# Altium integrated library Analog Devices Data Converters Digital-to-Analog Converters.IntLib: 2231 symbols (part 70 of 181)
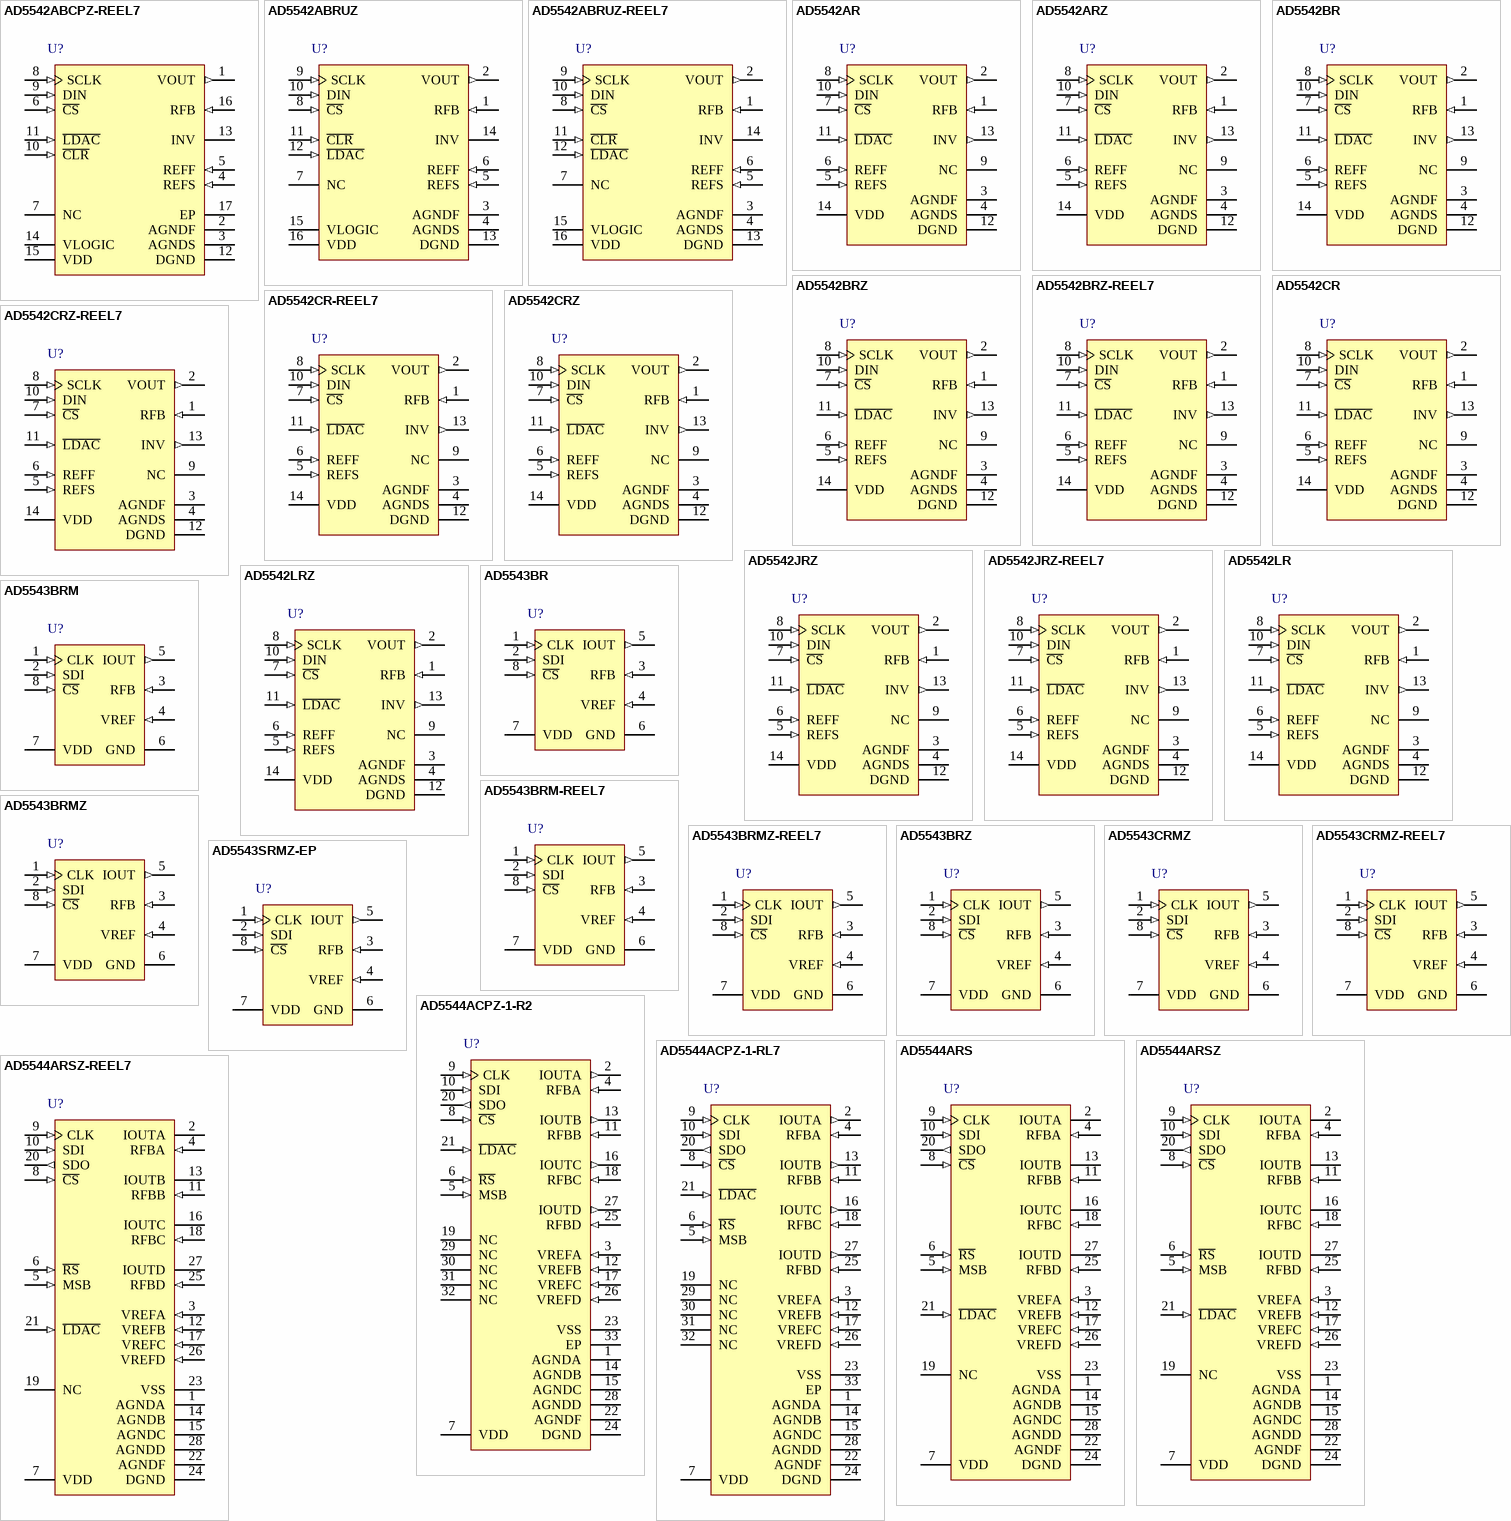
[diagram p183: symbols AD5542ABCPZ-REEL7 to AD5544ARSZ-REEL7]

## AD5542ABRUZ
designator U?
Single 16-Bit Digital-to-Analog Converter with Serial Interface, 2.7 to 5.5 V, -40 to +85 degC, RU-16, Pb-Free, Tube; Generic Part Number: AD5542A; Manufacturer: Analog Devices; PartNumber: AD5542ABRUZ; # DAC Outputs: 1; Max V+: 5.5V; Op Pwr Diss: 1.5mW; Resolution (Bits): 16; Settling Time: 1µs; Single Supply: Yes; DatasheetVersion: Rev.A; PackageVersion: Nov-2002; PackageReference: RU-16; PackageDescription: 16-Lead Thin Shrink Small Outline Package [TSSOP]; Supplier 1: Digi-Key; Supplier Part Number 1: AD5542ABRUZ-ND; Supplier 2: Mouser; Supplier Part Number 2: 584-AD5542ABRUZ; Packing: Tube; RoHS: Y; Mounting Technology: Surface Mount; Code_JEDEC: MO-153-AB; ComponentLink1Description: Manufacturer URL; ComponentLink1URL: http://www.analog.com/en/index.html; ComponentLink2Description: Datasheet; ComponentLink2URL: http://www.analog.com/static/imported-files/data_sheets/AD5512A_5542A.pdf; ComponentLink3Description: Package Specification; ComponentLink3URL: http://www.analog.com/static/imported-files/packages/36244347913743854010197452789RU16.pdf; ComponentLink4Description: Product URL; ComponentLink4URL: http://www.analog.com/en/digital-to-analog-converters/da-converters/ad5542a/products/product.html
footprint RU-16_N (TSOP, 16-Leads, Body 5x4.4mm, Pitch 0.65mm, IPC Medium Density)
footprint RU-16_L (TSOP, 16-Leads, Body 5x4.4mm, Pitch 0.65mm, IPC High Density)
footprint RU-16_M (TSOP, 16-Leads, Body 5x4.4mm, Pitch 0.65mm, IPC Low Density)
pins: 1 RFB (in) "Feedback Resistor Pin. In bipolar mode, connect this pin to the external op amp output.", 2 VOUT (out) "Analog Output Voltage from the DAC.", 3 AGNDF (power) "Ground Reference Point for Analog Circuitry (Force).", 4 AGNDS (power) "Ground Reference Point for Analog Circuitry (Sense).", 5 REFS (in) "Voltage Reference Input (Sense) for the DAC. Connect to an external 2.5 V reference. Reference can range from 2 V to VDD.", 6 REFF (in) "Voltage Reference Input (Force) for the DAC. Connect to an external 2.5 V reference. Reference can range from 2 V to VDD.", 7 NC "No Connect.", 8 ~{CS} (in) "Logic Input Signal. The chip select signal is used to frame the serial data input.", 9 SCLK (in) "Clock Input. Data is clocked into the input register on the rising edge of SCLK. Duty cycle must be between 40% and 60%.", 10 DIN (in) "Serial Data Input. This device accepts 16-bit words. Data is clocked into the input register on the rising edge of SCLK.", 11 ~{CLR} (in) "Asynchronous Clear Input. The C\L\R\ input is falling edge sensitive. When C\L\R\ is low, all L\D\A\C\ pulses are ignored. When C\L\R\ is activated, the DAC register is cleared to the model selectable midscale.", 12 ~{LDAC} (in) "L\D\A\C\ Input. When this input is taken low, the DAC register is simultaneously updated with the contents of the input register.", 13 DGND (power) "Digital Ground. Ground reference for digital circuitry.", 14 INV "Connection to the Internal Scaling Resistors of the DAC. Connect the INV pin to the external op amps inverting input in bipolar mode.", 15 VLOGIC (power) "Logic Power Supply.", 16 VDD (power) "Analog Supply Voltage, 5 V +/- 10%."

## AD5542ABRUZ-REEL7
designator U?
Single 16-Bit Digital-to-Analog Converter with Serial Interface, 2.7 to 5.5 V, -40 to +85 degC, RU-16, Pb-Free, Reel; Generic Part Number: AD5542A; Manufacturer: Analog Devices; PartNumber: AD5542ABRUZ-REEL7; # DAC Outputs: 1; Max V+: 5.5V; Op Pwr Diss: 1.5mW; Resolution (Bits): 16; Settling Time: 1µs; Single Supply: Yes; DatasheetVersion: Rev.A; PackageVersion: Nov-2002; PackageReference: RU-16; PackageDescription: 16-Lead Thin Shrink Small Outline Package [TSSOP]; Supplier 1: Digi-Key; Supplier Part Number 1: AD5542ABRUZ-REEL7-ND; Supplier 2: Mouser; Supplier Part Number 2: 584-AD5542ABRUZ-R7; Packing: Reel; RoHS: Y; Mounting Technology: Surface Mount; Code_JEDEC: MO-153-AB; ComponentLink1Description: Manufacturer URL; ComponentLink1URL: http://www.analog.com/en/index.html; ComponentLink2Description: Datasheet; ComponentLink2URL: http://www.analog.com/static/imported-files/data_sheets/AD5512A_5542A.pdf; ComponentLink3Description: Package Specification; ComponentLink3URL: http://www.analog.com/static/imported-files/packages/36244347913743854010197452789RU16.pdf; ComponentLink4Description: Product URL; ComponentLink4URL: http://www.analog.com/en/digital-to-analog-converters/da-converters/ad5542a/products/product.html
footprint RU-16_N (TSOP, 16-Leads, Body 5x4.4mm, Pitch 0.65mm, IPC Medium Density)
footprint RU-16_L (TSOP, 16-Leads, Body 5x4.4mm, Pitch 0.65mm, IPC High Density)
footprint RU-16_M (TSOP, 16-Leads, Body 5x4.4mm, Pitch 0.65mm, IPC Low Density)
pins: 1 RFB (in) "Feedback Resistor Pin. In bipolar mode, connect this pin to the external op amp output.", 2 VOUT (out) "Analog Output Voltage from the DAC.", 3 AGNDF (power) "Ground Reference Point for Analog Circuitry (Force).", 4 AGNDS (power) "Ground Reference Point for Analog Circuitry (Sense).", 5 REFS (in) "Voltage Reference Input (Sense) for the DAC. Connect to an external 2.5 V reference. Reference can range from 2 V to VDD.", 6 REFF (in) "Voltage Reference Input (Force) for the DAC. Connect to an external 2.5 V reference. Reference can range from 2 V to VDD.", 7 NC "No Connect.", 8 ~{CS} (in) "Logic Input Signal. The chip select signal is used to frame the serial data input.", 9 SCLK (in) "Clock Input. Data is clocked into the input register on the rising edge of SCLK. Duty cycle must be between 40% and 60%.", 10 DIN (in) "Serial Data Input. This device accepts 16-bit words. Data is clocked into the input register on the rising edge of SCLK.", 11 ~{CLR} (in) "Asynchronous Clear Input. The C\L\R\ input is falling edge sensitive. When C\L\R\ is low, all L\D\A\C\ pulses are ignored. When C\L\R\ is activated, the DAC register is cleared to the model selectable midscale.", 12 ~{LDAC} (in) "L\D\A\C\ Input. When this input is taken low, the DAC register is simultaneously updated with the contents of the input register.", 13 DGND (power) "Digital Ground. Ground reference for digital circuitry.", 14 INV "Connection to the Internal Scaling Resistors of the DAC. Connect the INV pin to the external op amps inverting input in bipolar mode.", 15 VLOGIC (power) "Logic Power Supply.", 16 VDD (power) "Analog Supply Voltage, 5 V +/- 10%."

## AD5542AR
designator U?
Single 16-Bit Digital-to-Analog Converter with Serial Interface, 2.7 to 5.5 V, -40 to +85 degC, R-14, Tube; Generic Part Number: AD5542; Manufacturer: Analog Devices; PartNumber: AD5542AR; # DAC Outputs: 1; Max V+: 5.5V; Op Pwr Diss: 6.05mW; Resolution (Bits): 16; Settling Time: 1µs; Single Supply: Yes; DatasheetVersion: Rev.F; PackageVersion: 060606-A; PackageReference: R-14; PackageDescription: 14-Lead Standard Small Outline Package [SOIC_N]; Supplier 1: Digi-Key; Supplier Part Number 1: AD5542AR-ND; Supplier 2: Mouser; Supplier Part Number 2: 584-AD5542AR; Packing: Tube; RoHS: N; Mounting Technology: Surface Mount; Code_JEDEC: MS-012-AB; Code_IPC: SOIC127P600-14; ComponentLink1Description: Manufacturer URL; ComponentLink1URL: http://www.analog.com/en/index.html; ComponentLink2Description: Datasheet; ComponentLink2URL: http://www.analog.com/static/imported-files/data_sheets/AD5541_5542.pdf; ComponentLink3Description: Package Specification; ComponentLink3URL: http://www.analog.com/static/imported-files/packages/PKG_PDF/SOIC_Narrow%20(R)/R_14.pdf; ComponentLink4Description: Product URL; ComponentLink4URL: http://www.analog.com/en/digital-to-analog-converters/da-converters/ad5542/products/product.html; ComponentLink5Description: Reference Design URL; ComponentLink5URL: http://www.analog.com/en/digital-to-analog-converters/da-converters/ad5542/products/product.html#prod_cross_sell
footprint R-14_N (SOIC, 14-Leads, Body 8.7x3.9mm, Pitch 1.27mm, IPC Medium Density)
footprint R-14_L (SOIC, 14-Leads, Body 8.7x3.9mm, Pitch 1.27mm, IPC High Density)
footprint R-14_M (SOIC, 14-Leads, Body 8.7x3.9mm, Pitch 1.27mm, IPC Low Density)
pins: 1 RFB (in) "Feedback Resistor Pin. In bipolar mode, connect this pin to the external op amp output.", 2 VOUT (out) "Analog Output Voltage from the DAC.", 3 AGNDF (power) "Ground Reference Point for Analog Circuitry (Force).", 4 AGNDS (power) "Ground Reference Point for Analog Circuitry (Sense).", 5 REFS (in) "Voltage Reference Input (Sense) for the DAC. Connect to an external 2.5 V reference. Reference can range from 2 V to VDD.", 6 REFF (in) "Voltage Reference Input (Force) for the DAC. Connect to an external 2.5 V reference. Reference can range from 2 V to VDD.", 7 ~{CS} (in) "Logic Input Signal. The chip select signal is used to frame the serial data input.", 8 SCLK (in) "Clock Input. Data is clocked into the input register on the rising edge of SCLK. Duty cycle must be between 40% and 60%.", 9 NC "No Connect.", 10 DIN (in) "Serial Data Input. This device accepts 16-bit words. Data is clocked into the input register on the rising edge of SCLK.", 11 ~{LDAC} (in) "L\D\A\C\ Input. When this input is taken low, the DAC register is simultaneously updated with the contents of the input register.", 12 DGND (power) "Digital Ground. Ground reference for digital circuitry.", 13 INV (out) "Connected to the Internal Scaling Resistors of the DAC. Connect the INV pin to external op amps inverting input in bipolar mode", 14 VDD (power) "Analog Supply Voltage, 5 V +/- 10%."

## AD5542ARZ
designator U?
Single 16-Bit Digital-to-Analog Converter with Serial Interface, 2.7 to 5.5 V, -40 to +85 degC, R-14, Pb-Free, Tube; Generic Part Number: AD5542; Manufacturer: Analog Devices; PartNumber: AD5542ARZ; # DAC Outputs: 1; Max V+: 5.5V; Op Pwr Diss: 6.05mW; Resolution (Bits): 16; Settling Time: 1µs; Single Supply: Yes; DatasheetVersion: Rev.F; PackageVersion: 060606-A; PackageReference: R-14; PackageDescription: 14-Lead Standard Small Outline Package [SOIC_N]; Supplier 1: Digi-Key; Supplier Part Number 1: AD5542ARZ-ND; Supplier 2: Newark; Supplier Part Number 2: 59K4213; Supplier 3: Mouser; Supplier Part Number 3: 584-AD5542ARZ; Packing: Tube; RoHS: Y; Mounting Technology: Surface Mount; Code_JEDEC: MS-012-AB; Code_IPC: SOIC127P600-14; ComponentLink1Description: Manufacturer URL; ComponentLink1URL: http://www.analog.com/en/index.html; ComponentLink2Description: Datasheet; ComponentLink2URL: http://www.analog.com/static/imported-files/data_sheets/AD5541_5542.pdf; ComponentLink3Description: Package Specification; ComponentLink3URL: http://www.analog.com/static/imported-files/packages/PKG_PDF/SOIC_Narrow%20(R)/R_14.pdf; ComponentLink4Description: Product URL; ComponentLink4URL: http://www.analog.com/en/digital-to-analog-converters/da-converters/ad5542/products/product.html; ComponentLink5Description: Reference Design URL; ComponentLink5URL: http://www.analog.com/en/digital-to-analog-converters/da-converters/ad5542/products/product.html#prod_cross_sell
footprint R-14_N (SOIC, 14-Leads, Body 8.7x3.9mm, Pitch 1.27mm, IPC Medium Density)
footprint R-14_L (SOIC, 14-Leads, Body 8.7x3.9mm, Pitch 1.27mm, IPC High Density)
footprint R-14_M (SOIC, 14-Leads, Body 8.7x3.9mm, Pitch 1.27mm, IPC Low Density)
pins: 1 RFB (in) "Feedback Resistor Pin. In bipolar mode, connect this pin to the external op amp output.", 2 VOUT (out) "Analog Output Voltage from the DAC.", 3 AGNDF (power) "Ground Reference Point for Analog Circuitry (Force).", 4 AGNDS (power) "Ground Reference Point for Analog Circuitry (Sense).", 5 REFS (in) "Voltage Reference Input (Sense) for the DAC. Connect to an external 2.5 V reference. Reference can range from 2 V to VDD.", 6 REFF (in) "Voltage Reference Input (Force) for the DAC. Connect to an external 2.5 V reference. Reference can range from 2 V to VDD.", 7 ~{CS} (in) "Logic Input Signal. The chip select signal is used to frame the serial data input.", 8 SCLK (in) "Clock Input. Data is clocked into the input register on the rising edge of SCLK. Duty cycle must be between 40% and 60%.", 9 NC "No Connect.", 10 DIN (in) "Serial Data Input. This device accepts 16-bit words. Data is clocked into the input register on the rising edge of SCLK.", 11 ~{LDAC} (in) "L\D\A\C\ Input. When this input is taken low, the DAC register is simultaneously updated with the contents of the input register.", 12 DGND (power) "Digital Ground. Ground reference for digital circuitry.", 13 INV (out) "Connected to the Internal Scaling Resistors of the DAC. Connect the INV pin to external op amps inverting input in bipolar mode", 14 VDD (power) "Analog Supply Voltage, 5 V +/- 10%."

## AD5542BR
designator U?
Single 16-Bit Digital-to-Analog Converter with Serial Interface, 2.7 to 5.5 V, -40 to +85 degC, R-14, Tube; Generic Part Number: AD5542; Manufacturer: Analog Devices; PartNumber: AD5542BR; # DAC Outputs: 1; Max V+: 5.5V; Op Pwr Diss: 6.05mW; Resolution (Bits): 16; Settling Time: 1µs; Single Supply: Yes; DatasheetVersion: Rev.F; PackageVersion: 060606-A; PackageReference: R-14; PackageDescription: 14-Lead Standard Small Outline Package [SOIC_N]; Supplier 1: Digi-Key; Supplier Part Number 1: AD5542BR-ND; Supplier 2: Mouser; Supplier Part Number 2: 584-AD5542BR; Packing: Tube; RoHS: N; Mounting Technology: Surface Mount; Code_JEDEC: MS-012-AB; Code_IPC: SOIC127P600-14; ComponentLink1Description: Manufacturer URL; ComponentLink1URL: http://www.analog.com/en/index.html; ComponentLink2Description: Datasheet; ComponentLink2URL: http://www.analog.com/static/imported-files/data_sheets/AD5541_5542.pdf; ComponentLink3Description: Package Specification; ComponentLink3URL: http://www.analog.com/static/imported-files/packages/PKG_PDF/SOIC_Narrow%20(R)/R_14.pdf; ComponentLink4Description: Product URL; ComponentLink4URL: http://www.analog.com/en/digital-to-analog-converters/da-converters/ad5542/products/product.html; ComponentLink5Description: Reference Design URL; ComponentLink5URL: http://www.analog.com/en/digital-to-analog-converters/da-converters/ad5542/products/product.html#prod_cross_sell
footprint R-14_N (SOIC, 14-Leads, Body 8.7x3.9mm, Pitch 1.27mm, IPC Medium Density)
footprint R-14_L (SOIC, 14-Leads, Body 8.7x3.9mm, Pitch 1.27mm, IPC High Density)
footprint R-14_M (SOIC, 14-Leads, Body 8.7x3.9mm, Pitch 1.27mm, IPC Low Density)
pins: 1 RFB (in) "Feedback Resistor Pin. In bipolar mode, connect this pin to the external op amp output.", 2 VOUT (out) "Analog Output Voltage from the DAC.", 3 AGNDF (power) "Ground Reference Point for Analog Circuitry (Force).", 4 AGNDS (power) "Ground Reference Point for Analog Circuitry (Sense).", 5 REFS (in) "Voltage Reference Input (Sense) for the DAC. Connect to an external 2.5 V reference. Reference can range from 2 V to VDD.", 6 REFF (in) "Voltage Reference Input (Force) for the DAC. Connect to an external 2.5 V reference. Reference can range from 2 V to VDD.", 7 ~{CS} (in) "Logic Input Signal. The chip select signal is used to frame the serial data input.", 8 SCLK (in) "Clock Input. Data is clocked into the input register on the rising edge of SCLK. Duty cycle must be between 40% and 60%.", 9 NC "No Connect.", 10 DIN (in) "Serial Data Input. This device accepts 16-bit words. Data is clocked into the input register on the rising edge of SCLK.", 11 ~{LDAC} (in) "L\D\A\C\ Input. When this input is taken low, the DAC register is simultaneously updated with the contents of the input register.", 12 DGND (power) "Digital Ground. Ground reference for digital circuitry.", 13 INV (out) "Connected to the Internal Scaling Resistors of the DAC. Connect the INV pin to external op amps inverting input in bipolar mode", 14 VDD (power) "Analog Supply Voltage, 5 V +/- 10%."

## AD5542BRZ
designator U?
Single 16-Bit Digital-to-Analog Converter with Serial Interface, 2.7 to 5.5 V, -40 to +85 degC, R-14, Pb-Free, Tube; Generic Part Number: AD5542; Manufacturer: Analog Devices; PartNumber: AD5542BRZ; # DAC Outputs: 1; Max V+: 5.5V; Op Pwr Diss: 6.05mW; Resolution (Bits): 16; Settling Time: 1µs; Single Supply: Yes; DatasheetVersion: Rev.F; PackageVersion: 060606-A; PackageReference: R-14; PackageDescription: 14-Lead Standard Small Outline Package [SOIC_N]; Supplier 1: Digi-Key; Supplier Part Number 1: AD5542BRZ-ND; Supplier 2: Farnell; Supplier Part Number 2: 2305673; Supplier 3: Newark; Supplier Part Number 3: 84W7400; Supplier 4: Mouser; Supplier Part Number 4: 584-AD5542BRZ; Packing: Tube; RoHS: Y; Mounting Technology: Surface Mount; Code_JEDEC: MS-012-AB; Code_IPC: SOIC127P600-14; ComponentLink1Description: Manufacturer URL; ComponentLink1URL: http://www.analog.com/en/index.html; ComponentLink2Description: Datasheet; ComponentLink2URL: http://www.analog.com/static/imported-files/data_sheets/AD5541_5542.pdf; ComponentLink3Description: Package Specification; ComponentLink3URL: http://www.analog.com/static/imported-files/packages/PKG_PDF/SOIC_Narrow%20(R)/R_14.pdf; ComponentLink4Description: Product URL; ComponentLink4URL: http://www.analog.com/en/digital-to-analog-converters/da-converters/ad5542/products/product.html; ComponentLink5Description: Reference Design URL; ComponentLink5URL: http://www.analog.com/en/digital-to-analog-converters/da-converters/ad5542/products/product.html#prod_cross_sell
footprint R-14_N (SOIC, 14-Leads, Body 8.7x3.9mm, Pitch 1.27mm, IPC Medium Density)
footprint R-14_L (SOIC, 14-Leads, Body 8.7x3.9mm, Pitch 1.27mm, IPC High Density)
footprint R-14_M (SOIC, 14-Leads, Body 8.7x3.9mm, Pitch 1.27mm, IPC Low Density)
pins: 1 RFB (in) "Feedback Resistor Pin. In bipolar mode, connect this pin to the external op amp output.", 2 VOUT (out) "Analog Output Voltage from the DAC.", 3 AGNDF (power) "Ground Reference Point for Analog Circuitry (Force).", 4 AGNDS (power) "Ground Reference Point for Analog Circuitry (Sense).", 5 REFS (in) "Voltage Reference Input (Sense) for the DAC. Connect to an external 2.5 V reference. Reference can range from 2 V to VDD.", 6 REFF (in) "Voltage Reference Input (Force) for the DAC. Connect to an external 2.5 V reference. Reference can range from 2 V to VDD.", 7 ~{CS} (in) "Logic Input Signal. The chip select signal is used to frame the serial data input.", 8 SCLK (in) "Clock Input. Data is clocked into the input register on the rising edge of SCLK. Duty cycle must be between 40% and 60%.", 9 NC "No Connect.", 10 DIN (in) "Serial Data Input. This device accepts 16-bit words. Data is clocked into the input register on the rising edge of SCLK.", 11 ~{LDAC} (in) "L\D\A\C\ Input. When this input is taken low, the DAC register is simultaneously updated with the contents of the input register.", 12 DGND (power) "Digital Ground. Ground reference for digital circuitry.", 13 INV (out) "Connected to the Internal Scaling Resistors of the DAC. Connect the INV pin to external op amps inverting input in bipolar mode", 14 VDD (power) "Analog Supply Voltage, 5 V +/- 10%."

## AD5542BRZ-REEL7
designator U?
Single 16-Bit Digital-to-Analog Converter with Serial Interface, 2.7 to 5.5 V, -40 to +85 degC, R-14, Pb-Free, Reel; Generic Part Number: AD5542; Manufacturer: Analog Devices; PartNumber: AD5542BRZ-REEL7; # DAC Outputs: 1; Max V+: 5.5V; Op Pwr Diss: 6.05mW; Resolution (Bits): 16; Settling Time: 1µs; Single Supply: Yes; DatasheetVersion: Rev.F; PackageVersion: 060606-A; PackageReference: R-14; PackageDescription: 14-Lead Standard Small Outline Package [SOIC_N]; Supplier 1: Digi-Key; Supplier Part Number 1: AD5542BRZ-REEL7-ND; Supplier 2: Mouser; Supplier Part Number 2: 584-AD5542BRZ-R7; Packing: Reel; RoHS: Y; Mounting Technology: Surface Mount; Code_JEDEC: MS-012-AB; Code_IPC: SOIC127P600-14; ComponentLink1Description: Manufacturer URL; ComponentLink1URL: http://www.analog.com/en/index.html; ComponentLink2Description: Datasheet; ComponentLink2URL: http://www.analog.com/static/imported-files/data_sheets/AD5541_5542.pdf; ComponentLink3Description: Package Specification; ComponentLink3URL: http://www.analog.com/static/imported-files/packages/PKG_PDF/SOIC_Narrow%20(R)/R_14.pdf; ComponentLink4Description: Product URL; ComponentLink4URL: http://www.analog.com/en/digital-to-analog-converters/da-converters/ad5542/products/product.html; ComponentLink5Description: Reference Design URL; ComponentLink5URL: http://www.analog.com/en/digital-to-analog-converters/da-converters/ad5542/products/product.html#prod_cross_sell
footprint R-14_N (SOIC, 14-Leads, Body 8.7x3.9mm, Pitch 1.27mm, IPC Medium Density)
footprint R-14_L (SOIC, 14-Leads, Body 8.7x3.9mm, Pitch 1.27mm, IPC High Density)
footprint R-14_M (SOIC, 14-Leads, Body 8.7x3.9mm, Pitch 1.27mm, IPC Low Density)
pins: 1 RFB (in) "Feedback Resistor Pin. In bipolar mode, connect this pin to the external op amp output.", 2 VOUT (out) "Analog Output Voltage from the DAC.", 3 AGNDF (power) "Ground Reference Point for Analog Circuitry (Force).", 4 AGNDS (power) "Ground Reference Point for Analog Circuitry (Sense).", 5 REFS (in) "Voltage Reference Input (Sense) for the DAC. Connect to an external 2.5 V reference. Reference can range from 2 V to VDD.", 6 REFF (in) "Voltage Reference Input (Force) for the DAC. Connect to an external 2.5 V reference. Reference can range from 2 V to VDD.", 7 ~{CS} (in) "Logic Input Signal. The chip select signal is used to frame the serial data input.", 8 SCLK (in) "Clock Input. Data is clocked into the input register on the rising edge of SCLK. Duty cycle must be between 40% and 60%.", 9 NC "No Connect.", 10 DIN (in) "Serial Data Input. This device accepts 16-bit words. Data is clocked into the input register on the rising edge of SCLK.", 11 ~{LDAC} (in) "L\D\A\C\ Input. When this input is taken low, the DAC register is simultaneously updated with the contents of the input register.", 12 DGND (power) "Digital Ground. Ground reference for digital circuitry.", 13 INV (out) "Connected to the Internal Scaling Resistors of the DAC. Connect the INV pin to external op amps inverting input in bipolar mode", 14 VDD (power) "Analog Supply Voltage, 5 V +/- 10%."

## AD5542CR
designator U?
Single 16-Bit Digital-to-Analog Converter with Serial Interface, 2.7 to 5.5 V, -40 to +85 degC, R-14, Tube; Generic Part Number: AD5542; Manufacturer: Analog Devices; PartNumber: AD5542CR; # DAC Outputs: 1; Max V+: 5.5V; Op Pwr Diss: 6.05mW; Resolution (Bits): 16; Settling Time: 1µs; Single Supply: Yes; DatasheetVersion: Rev.F; PackageVersion: 060606-A; PackageReference: R-14; PackageDescription: 14-Lead Standard Small Outline Package [SOIC_N]; Supplier 1: Digi-Key; Supplier Part Number 1: AD5542CR-ND; Supplier 2: Newark; Supplier Part Number 2: 19C6866; Supplier 3: Mouser; Supplier Part Number 3: 584-AD5542CR; Packing: Tube; RoHS: N; Mounting Technology: Surface Mount; Code_JEDEC: MS-012-AB; Code_IPC: SOIC127P600-14; ComponentLink1Description: Manufacturer URL; ComponentLink1URL: http://www.analog.com/en/index.html; ComponentLink2Description: Datasheet; ComponentLink2URL: http://www.analog.com/static/imported-files/data_sheets/AD5541_5542.pdf; ComponentLink3Description: Package Specification; ComponentLink3URL: http://www.analog.com/static/imported-files/packages/PKG_PDF/SOIC_Narrow%20(R)/R_14.pdf; ComponentLink4Description: Product URL; ComponentLink4URL: http://www.analog.com/en/digital-to-analog-converters/da-converters/ad5542/products/product.html; ComponentLink5Description: Reference Design URL; ComponentLink5URL: http://www.analog.com/en/digital-to-analog-converters/da-converters/ad5542/products/product.html#prod_cross_sell
footprint R-14_N (SOIC, 14-Leads, Body 8.7x3.9mm, Pitch 1.27mm, IPC Medium Density)
footprint R-14_L (SOIC, 14-Leads, Body 8.7x3.9mm, Pitch 1.27mm, IPC High Density)
footprint R-14_M (SOIC, 14-Leads, Body 8.7x3.9mm, Pitch 1.27mm, IPC Low Density)
pins: 1 RFB (in) "Feedback Resistor Pin. In bipolar mode, connect this pin to the external op amp output.", 2 VOUT (out) "Analog Output Voltage from the DAC.", 3 AGNDF (power) "Ground Reference Point for Analog Circuitry (Force).", 4 AGNDS (power) "Ground Reference Point for Analog Circuitry (Sense).", 5 REFS (in) "Voltage Reference Input (Sense) for the DAC. Connect to an external 2.5 V reference. Reference can range from 2 V to VDD.", 6 REFF (in) "Voltage Reference Input (Force) for the DAC. Connect to an external 2.5 V reference. Reference can range from 2 V to VDD.", 7 ~{CS} (in) "Logic Input Signal. The chip select signal is used to frame the serial data input.", 8 SCLK (in) "Clock Input. Data is clocked into the input register on the rising edge of SCLK. Duty cycle must be between 40% and 60%.", 9 NC "No Connect.", 10 DIN (in) "Serial Data Input. This device accepts 16-bit words. Data is clocked into the input register on the rising edge of SCLK.", 11 ~{LDAC} (in) "L\D\A\C\ Input. When this input is taken low, the DAC register is simultaneously updated with the contents of the input register.", 12 DGND (power) "Digital Ground. Ground reference for digital circuitry.", 13 INV (out) "Connected to the Internal Scaling Resistors of the DAC. Connect the INV pin to external op amps inverting input in bipolar mode", 14 VDD (power) "Analog Supply Voltage, 5 V +/- 10%."

## AD5542CR-REEL7
designator U?
Single 16-Bit Digital-to-Analog Converter with Serial Interface, 2.7 to 5.5 V, -40 to +85 degC, R-14, Reel; Generic Part Number: AD5542; Manufacturer: Analog Devices; PartNumber: AD5542CR-REEL7; # DAC Outputs: 1; Max V+: 5.5V; Op Pwr Diss: 6.05mW; Resolution (Bits): 16; Settling Time: 1µs; Single Supply: Yes; DatasheetVersion: Rev.F; PackageVersion: 060606-A; PackageReference: R-14; PackageDescription: 14-Lead Standard Small Outline Package [SOIC_N]; Supplier 1: Mouser; Supplier Part Number 1: N/A; Packing: Reel; RoHS: N; Mounting Technology: Surface Mount; Code_JEDEC: MS-012-AB; Code_IPC: SOIC127P600-14; ComponentLink1Description: Manufacturer URL; ComponentLink1URL: http://www.analog.com/en/index.html; ComponentLink2Description: Datasheet; ComponentLink2URL: http://www.analog.com/static/imported-files/data_sheets/AD5541_5542.pdf; ComponentLink3Description: Package Specification; ComponentLink3URL: http://www.analog.com/static/imported-files/packages/PKG_PDF/SOIC_Narrow%20(R)/R_14.pdf; ComponentLink4Description: Product URL; ComponentLink4URL: http://www.analog.com/en/digital-to-analog-converters/da-converters/ad5542/products/product.html; ComponentLink5Description: Reference Design URL; ComponentLink5URL: http://www.analog.com/en/digital-to-analog-converters/da-converters/ad5542/products/product.html#prod_cross_sell
footprint R-14_N (SOIC, 14-Leads, Body 8.7x3.9mm, Pitch 1.27mm, IPC Medium Density)
footprint R-14_L (SOIC, 14-Leads, Body 8.7x3.9mm, Pitch 1.27mm, IPC High Density)
footprint R-14_M (SOIC, 14-Leads, Body 8.7x3.9mm, Pitch 1.27mm, IPC Low Density)
pins: 1 RFB (in) "Feedback Resistor Pin. In bipolar mode, connect this pin to the external op amp output.", 2 VOUT (out) "Analog Output Voltage from the DAC.", 3 AGNDF (power) "Ground Reference Point for Analog Circuitry (Force).", 4 AGNDS (power) "Ground Reference Point for Analog Circuitry (Sense).", 5 REFS (in) "Voltage Reference Input (Sense) for the DAC. Connect to an external 2.5 V reference. Reference can range from 2 V to VDD.", 6 REFF (in) "Voltage Reference Input (Force) for the DAC. Connect to an external 2.5 V reference. Reference can range from 2 V to VDD.", 7 ~{CS} (in) "Logic Input Signal. The chip select signal is used to frame the serial data input.", 8 SCLK (in) "Clock Input. Data is clocked into the input register on the rising edge of SCLK. Duty cycle must be between 40% and 60%.", 9 NC "No Connect.", 10 DIN (in) "Serial Data Input. This device accepts 16-bit words. Data is clocked into the input register on the rising edge of SCLK.", 11 ~{LDAC} (in) "L\D\A\C\ Input. When this input is taken low, the DAC register is simultaneously updated with the contents of the input register.", 12 DGND (power) "Digital Ground. Ground reference for digital circuitry.", 13 INV (out) "Connected to the Internal Scaling Resistors of the DAC. Connect the INV pin to external op amps inverting input in bipolar mode", 14 VDD (power) "Analog Supply Voltage, 5 V +/- 10%."

## AD5542CRZ
designator U?
Single 16-Bit Digital-to-Analog Converter with Serial Interface, 2.7 to 5.5 V, -40 to +85 degC, R-14, Pb-Free, Tube; Generic Part Number: AD5542; Manufacturer: Analog Devices; PartNumber: AD5542CRZ; # DAC Outputs: 1; Max V+: 5.5V; Op Pwr Diss: 6.05mW; Resolution (Bits): 16; Settling Time: 1µs; Single Supply: Yes; DatasheetVersion: Rev.F; PackageVersion: 060606-A; PackageReference: R-14; PackageDescription: 14-Lead Standard Small Outline Package [SOIC_N]; Supplier 1: Digi-Key; Supplier Part Number 1: AD5542CRZ-ND; Supplier 2: Farnell; Supplier Part Number 2: 1438374; Supplier 3: Newark; Supplier Part Number 3: 15P0691; Supplier 4: Newark; Supplier Part Number 4: 12M8556; Supplier 5: Mouser; Supplier Part Number 5: 584-AD5542CRZ; Packing: Tube; RoHS: Y; Mounting Technology: Surface Mount; Code_JEDEC: MS-012-AB; Code_IPC: SOIC127P600-14; ComponentLink1Description: Manufacturer URL; ComponentLink1URL: http://www.analog.com/en/index.html; ComponentLink2Description: Datasheet; ComponentLink2URL: http://www.analog.com/static/imported-files/data_sheets/AD5541_5542.pdf; ComponentLink3Description: Package Specification; ComponentLink3URL: http://www.analog.com/static/imported-files/packages/PKG_PDF/SOIC_Narrow%20(R)/R_14.pdf; ComponentLink4Description: Product URL; ComponentLink4URL: http://www.analog.com/en/digital-to-analog-converters/da-converters/ad5542/products/product.html; ComponentLink5Description: Reference Design URL; ComponentLink5URL: http://www.analog.com/en/digital-to-analog-converters/da-converters/ad5542/products/product.html#prod_cross_sell
footprint R-14_N (SOIC, 14-Leads, Body 8.7x3.9mm, Pitch 1.27mm, IPC Medium Density)
footprint R-14_L (SOIC, 14-Leads, Body 8.7x3.9mm, Pitch 1.27mm, IPC High Density)
footprint R-14_M (SOIC, 14-Leads, Body 8.7x3.9mm, Pitch 1.27mm, IPC Low Density)
pins: 1 RFB (in) "Feedback Resistor Pin. In bipolar mode, connect this pin to the external op amp output.", 2 VOUT (out) "Analog Output Voltage from the DAC.", 3 AGNDF (power) "Ground Reference Point for Analog Circuitry (Force).", 4 AGNDS (power) "Ground Reference Point for Analog Circuitry (Sense).", 5 REFS (in) "Voltage Reference Input (Sense) for the DAC. Connect to an external 2.5 V reference. Reference can range from 2 V to VDD.", 6 REFF (in) "Voltage Reference Input (Force) for the DAC. Connect to an external 2.5 V reference. Reference can range from 2 V to VDD.", 7 ~{CS} (in) "Logic Input Signal. The chip select signal is used to frame the serial data input.", 8 SCLK (in) "Clock Input. Data is clocked into the input register on the rising edge of SCLK. Duty cycle must be between 40% and 60%.", 9 NC "No Connect.", 10 DIN (in) "Serial Data Input. This device accepts 16-bit words. Data is clocked into the input register on the rising edge of SCLK.", 11 ~{LDAC} (in) "L\D\A\C\ Input. When this input is taken low, the DAC register is simultaneously updated with the contents of the input register.", 12 DGND (power) "Digital Ground. Ground reference for digital circuitry.", 13 INV (out) "Connected to the Internal Scaling Resistors of the DAC. Connect the INV pin to external op amps inverting input in bipolar mode", 14 VDD (power) "Analog Supply Voltage, 5 V +/- 10%."

## AD5542CRZ-REEL7
designator U?
Single 16-Bit Digital-to-Analog Converter with Serial Interface, 2.7 to 5.5 V, -40 to +85 degC, R-14, Pb-Free, Reel; Generic Part Number: AD5542; Manufacturer: Analog Devices; PartNumber: AD5542CRZ-REEL7; # DAC Outputs: 1; Max V+: 5.5V; Op Pwr Diss: 6.05mW; Resolution (Bits): 16; Settling Time: 1µs; Single Supply: Yes; DatasheetVersion: Rev.F; PackageVersion: 060606-A; PackageReference: R-14; PackageDescription: 14-Lead Standard Small Outline Package [SOIC_N]; Supplier 1: Mouser; Supplier Part Number 1: N/A; Packing: Reel; RoHS: Y; Mounting Technology: Surface Mount; Code_JEDEC: MS-012-AB; Code_IPC: SOIC127P600-14; ComponentLink1Description: Manufacturer URL; ComponentLink1URL: http://www.analog.com/en/index.html; ComponentLink2Description: Datasheet; ComponentLink2URL: http://www.analog.com/static/imported-files/data_sheets/AD5541_5542.pdf; ComponentLink3Description: Package Specification; ComponentLink3URL: http://www.analog.com/static/imported-files/packages/PKG_PDF/SOIC_Narrow%20(R)/R_14.pdf; ComponentLink4Description: Product URL; ComponentLink4URL: http://www.analog.com/en/digital-to-analog-converters/da-converters/ad5542/products/product.html; ComponentLink5Description: Reference Design URL; ComponentLink5URL: http://www.analog.com/en/digital-to-analog-converters/da-converters/ad5542/products/product.html#prod_cross_sell
footprint R-14_N (SOIC, 14-Leads, Body 8.7x3.9mm, Pitch 1.27mm, IPC Medium Density)
footprint R-14_L (SOIC, 14-Leads, Body 8.7x3.9mm, Pitch 1.27mm, IPC High Density)
footprint R-14_M (SOIC, 14-Leads, Body 8.7x3.9mm, Pitch 1.27mm, IPC Low Density)
pins: 1 RFB (in) "Feedback Resistor Pin. In bipolar mode, connect this pin to the external op amp output.", 2 VOUT (out) "Analog Output Voltage from the DAC.", 3 AGNDF (power) "Ground Reference Point for Analog Circuitry (Force).", 4 AGNDS (power) "Ground Reference Point for Analog Circuitry (Sense).", 5 REFS (in) "Voltage Reference Input (Sense) for the DAC. Connect to an external 2.5 V reference. Reference can range from 2 V to VDD.", 6 REFF (in) "Voltage Reference Input (Force) for the DAC. Connect to an external 2.5 V reference. Reference can range from 2 V to VDD.", 7 ~{CS} (in) "Logic Input Signal. The chip select signal is used to frame the serial data input.", 8 SCLK (in) "Clock Input. Data is clocked into the input register on the rising edge of SCLK. Duty cycle must be between 40% and 60%.", 9 NC "No Connect.", 10 DIN (in) "Serial Data Input. This device accepts 16-bit words. Data is clocked into the input register on the rising edge of SCLK.", 11 ~{LDAC} (in) "L\D\A\C\ Input. When this input is taken low, the DAC register is simultaneously updated with the contents of the input register.", 12 DGND (power) "Digital Ground. Ground reference for digital circuitry.", 13 INV (out) "Connected to the Internal Scaling Resistors of the DAC. Connect the INV pin to external op amps inverting input in bipolar mode", 14 VDD (power) "Analog Supply Voltage, 5 V +/- 10%."

## AD5542JRZ
designator U?
Single 16-Bit Digital-to-Analog Converter with Serial Interface, 2.7 to 5.5 V, 0 to +70 degC, R-14, Pb-Free, Tube; Generic Part Number: AD5542; Manufacturer: Analog Devices; PartNumber: AD5542JRZ; # DAC Outputs: 1; Max V+: 5.5V; Op Pwr Diss: 6.05mW; Resolution (Bits): 16; Settling Time: 1µs; Single Supply: Yes; DatasheetVersion: Rev.F; PackageVersion: 060606-A; PackageReference: R-14; PackageDescription: 14-Lead Standard Small Outline Package [SOIC_N]; Supplier 1: Digi-Key; Supplier Part Number 1: AD5542JRZ-ND; Supplier 2: Newark; Supplier Part Number 2: 12M8557; Supplier 3: Mouser; Supplier Part Number 3: 584-AD5542JRZ; Packing: Tube; RoHS: Y; Mounting Technology: Surface Mount; Code_JEDEC: MS-012-AB; Code_IPC: SOIC127P600-14; ComponentLink1Description: Manufacturer URL; ComponentLink1URL: http://www.analog.com/en/index.html; ComponentLink2Description: Datasheet; ComponentLink2URL: http://www.analog.com/static/imported-files/data_sheets/AD5541_5542.pdf; ComponentLink3Description: Package Specification; ComponentLink3URL: http://www.analog.com/static/imported-files/packages/PKG_PDF/SOIC_Narrow%20(R)/R_14.pdf; ComponentLink4Description: Product URL; ComponentLink4URL: http://www.analog.com/en/digital-to-analog-converters/da-converters/ad5542/products/product.html; ComponentLink5Description: Reference Design URL; ComponentLink5URL: http://www.analog.com/en/digital-to-analog-converters/da-converters/ad5542/products/product.html#prod_cross_sell
footprint R-14_N (SOIC, 14-Leads, Body 8.7x3.9mm, Pitch 1.27mm, IPC Medium Density)
footprint R-14_L (SOIC, 14-Leads, Body 8.7x3.9mm, Pitch 1.27mm, IPC High Density)
footprint R-14_M (SOIC, 14-Leads, Body 8.7x3.9mm, Pitch 1.27mm, IPC Low Density)
pins: 1 RFB (in) "Feedback Resistor Pin. In bipolar mode, connect this pin to the external op amp output.", 2 VOUT (out) "Analog Output Voltage from the DAC.", 3 AGNDF (power) "Ground Reference Point for Analog Circuitry (Force).", 4 AGNDS (power) "Ground Reference Point for Analog Circuitry (Sense).", 5 REFS (in) "Voltage Reference Input (Sense) for the DAC. Connect to an external 2.5 V reference. Reference can range from 2 V to VDD.", 6 REFF (in) "Voltage Reference Input (Force) for the DAC. Connect to an external 2.5 V reference. Reference can range from 2 V to VDD.", 7 ~{CS} (in) "Logic Input Signal. The chip select signal is used to frame the serial data input.", 8 SCLK (in) "Clock Input. Data is clocked into the input register on the rising edge of SCLK. Duty cycle must be between 40% and 60%.", 9 NC "No Connect.", 10 DIN (in) "Serial Data Input. This device accepts 16-bit words. Data is clocked into the input register on the rising edge of SCLK.", 11 ~{LDAC} (in) "L\D\A\C\ Input. When this input is taken low, the DAC register is simultaneously updated with the contents of the input register.", 12 DGND (power) "Digital Ground. Ground reference for digital circuitry.", 13 INV (out) "Connected to the Internal Scaling Resistors of the DAC. Connect the INV pin to external op amps inverting input in bipolar mode", 14 VDD (power) "Analog Supply Voltage, 5 V +/- 10%."

## AD5542JRZ-REEL7
designator U?
Single 16-Bit Digital-to-Analog Converter with Serial Interface, 2.7 to 5.5 V, 0 to +70 degC, R-14, Pb-Free, Reel; Generic Part Number: AD5542; Manufacturer: Analog Devices; PartNumber: AD5542JRZ-REEL7; # DAC Outputs: 1; Max V+: 5.5V; Op Pwr Diss: 6.05mW; Resolution (Bits): 16; Settling Time: 1µs; Single Supply: Yes; DatasheetVersion: Rev.F; PackageVersion: 060606-A; PackageReference: R-14; PackageDescription: 14-Lead Standard Small Outline Package [SOIC_N]; Supplier 1: Digi-Key; Supplier Part Number 1: AD5542JRZ-REEL7-ND; Supplier 2: Newark; Supplier Part Number 2: 12M8558; Supplier 3: Mouser; Supplier Part Number 3: 584-AD5542JRZ-R7; Packing: Reel; RoHS: Y; Mounting Technology: Surface Mount; Code_JEDEC: MS-012-AB; Code_IPC: SOIC127P600-14; ComponentLink1Description: Manufacturer URL; ComponentLink1URL: http://www.analog.com/en/index.html; ComponentLink2Description: Datasheet; ComponentLink2URL: http://www.analog.com/static/imported-files/data_sheets/AD5541_5542.pdf; ComponentLink3Description: Package Specification; ComponentLink3URL: http://www.analog.com/static/imported-files/packages/PKG_PDF/SOIC_Narrow%20(R)/R_14.pdf; ComponentLink4Description: Product URL; ComponentLink4URL: http://www.analog.com/en/digital-to-analog-converters/da-converters/ad5542/products/product.html; ComponentLink5Description: Reference Design URL; ComponentLink5URL: http://www.analog.com/en/digital-to-analog-converters/da-converters/ad5542/products/product.html#prod_cross_sell
footprint R-14_N (SOIC, 14-Leads, Body 8.7x3.9mm, Pitch 1.27mm, IPC Medium Density)
footprint R-14_L (SOIC, 14-Leads, Body 8.7x3.9mm, Pitch 1.27mm, IPC High Density)
footprint R-14_M (SOIC, 14-Leads, Body 8.7x3.9mm, Pitch 1.27mm, IPC Low Density)
pins: 1 RFB (in) "Feedback Resistor Pin. In bipolar mode, connect this pin to the external op amp output.", 2 VOUT (out) "Analog Output Voltage from the DAC.", 3 AGNDF (power) "Ground Reference Point for Analog Circuitry (Force).", 4 AGNDS (power) "Ground Reference Point for Analog Circuitry (Sense).", 5 REFS (in) "Voltage Reference Input (Sense) for the DAC. Connect to an external 2.5 V reference. Reference can range from 2 V to VDD.", 6 REFF (in) "Voltage Reference Input (Force) for the DAC. Connect to an external 2.5 V reference. Reference can range from 2 V to VDD.", 7 ~{CS} (in) "Logic Input Signal. The chip select signal is used to frame the serial data input.", 8 SCLK (in) "Clock Input. Data is clocked into the input register on the rising edge of SCLK. Duty cycle must be between 40% and 60%.", 9 NC "No Connect.", 10 DIN (in) "Serial Data Input. This device accepts 16-bit words. Data is clocked into the input register on the rising edge of SCLK.", 11 ~{LDAC} (in) "L\D\A\C\ Input. When this input is taken low, the DAC register is simultaneously updated with the contents of the input register.", 12 DGND (power) "Digital Ground. Ground reference for digital circuitry.", 13 INV (out) "Connected to the Internal Scaling Resistors of the DAC. Connect the INV pin to external op amps inverting input in bipolar mode", 14 VDD (power) "Analog Supply Voltage, 5 V +/- 10%."

## AD5542LR
designator U?
Single 16-Bit Digital-to-Analog Converter with Serial Interface, 2.7 to 5.5 V, 0 to +70 degC, R-14, Tube; Generic Part Number: AD5542; Manufacturer: Analog Devices; PartNumber: AD5542LR; # DAC Outputs: 1; Max V+: 5.5V; Op Pwr Diss: 6.05mW; Resolution (Bits): 16; Settling Time: 1µs; Single Supply: Yes; DatasheetVersion: Rev.F; PackageVersion: 060606-A; PackageReference: R-14; PackageDescription: 14-Lead Standard Small Outline Package [SOIC_N]; Supplier 1: Digi-Key; Supplier Part Number 1: AD5542LR-ND; Supplier 2: Mouser; Supplier Part Number 2: 584-AD5542LR; Packing: Tube; RoHS: N; Mounting Technology: Surface Mount; Code_JEDEC: MS-012-AB; Code_IPC: SOIC127P600-14; ComponentLink1Description: Manufacturer URL; ComponentLink1URL: http://www.analog.com/en/index.html; ComponentLink2Description: Datasheet; ComponentLink2URL: http://www.analog.com/static/imported-files/data_sheets/AD5541_5542.pdf; ComponentLink3Description: Package Specification; ComponentLink3URL: http://www.analog.com/static/imported-files/packages/PKG_PDF/SOIC_Narrow%20(R)/R_14.pdf; ComponentLink4Description: Product URL; ComponentLink4URL: http://www.analog.com/en/digital-to-analog-converters/da-converters/ad5542/products/product.html; ComponentLink5Description: Reference Design URL; ComponentLink5URL: http://www.analog.com/en/digital-to-analog-converters/da-converters/ad5542/products/product.html#prod_cross_sell
footprint R-14_N (SOIC, 14-Leads, Body 8.7x3.9mm, Pitch 1.27mm, IPC Medium Density)
footprint R-14_L (SOIC, 14-Leads, Body 8.7x3.9mm, Pitch 1.27mm, IPC High Density)
footprint R-14_M (SOIC, 14-Leads, Body 8.7x3.9mm, Pitch 1.27mm, IPC Low Density)
pins: 1 RFB (in) "Feedback Resistor Pin. In bipolar mode, connect this pin to the external op amp output.", 2 VOUT (out) "Analog Output Voltage from the DAC.", 3 AGNDF (power) "Ground Reference Point for Analog Circuitry (Force).", 4 AGNDS (power) "Ground Reference Point for Analog Circuitry (Sense).", 5 REFS (in) "Voltage Reference Input (Sense) for the DAC. Connect to an external 2.5 V reference. Reference can range from 2 V to VDD.", 6 REFF (in) "Voltage Reference Input (Force) for the DAC. Connect to an external 2.5 V reference. Reference can range from 2 V to VDD.", 7 ~{CS} (in) "Logic Input Signal. The chip select signal is used to frame the serial data input.", 8 SCLK (in) "Clock Input. Data is clocked into the input register on the rising edge of SCLK. Duty cycle must be between 40% and 60%.", 9 NC "No Connect.", 10 DIN (in) "Serial Data Input. This device accepts 16-bit words. Data is clocked into the input register on the rising edge of SCLK.", 11 ~{LDAC} (in) "L\D\A\C\ Input. When this input is taken low, the DAC register is simultaneously updated with the contents of the input register.", 12 DGND (power) "Digital Ground. Ground reference for digital circuitry.", 13 INV (out) "Connected to the Internal Scaling Resistors of the DAC. Connect the INV pin to external op amps inverting input in bipolar mode", 14 VDD (power) "Analog Supply Voltage, 5 V +/- 10%."

## AD5542LRZ
designator U?
Single 16-Bit Digital-to-Analog Converter with Serial Interface, 2.7 to 5.5 V, 0 to +70 degC, R-14, Pb-Free, Tube; Generic Part Number: AD5542; Manufacturer: Analog Devices; PartNumber: AD5542LRZ; # DAC Outputs: 1; Max V+: 5.5V; Op Pwr Diss: 6.05mW; Resolution (Bits): 16; Settling Time: 1µs; Single Supply: Yes; DatasheetVersion: Rev.F; PackageVersion: 060606-A; PackageReference: R-14; PackageDescription: 14-Lead Standard Small Outline Package [SOIC_N]; Supplier 1: Digi-Key; Supplier Part Number 1: AD5542LRZ-ND; Supplier 2: Farnell; Supplier Part Number 2: 1438375; Supplier 3: Newark; Supplier Part Number 3: 15P0692; Supplier 4: Newark; Supplier Part Number 4: 12M8559; Supplier 5: Mouser; Supplier Part Number 5: 584-AD5542LRZ; Packing: Tube; RoHS: Y; Mounting Technology: Surface Mount; Code_JEDEC: MS-012-AB; Code_IPC: SOIC127P600-14; ComponentLink1Description: Manufacturer URL; ComponentLink1URL: http://www.analog.com/en/index.html; ComponentLink2Description: Datasheet; ComponentLink2URL: http://www.analog.com/static/imported-files/data_sheets/AD5541_5542.pdf; ComponentLink3Description: Package Specification; ComponentLink3URL: http://www.analog.com/static/imported-files/packages/PKG_PDF/SOIC_Narrow%20(R)/R_14.pdf; ComponentLink4Description: Product URL; ComponentLink4URL: http://www.analog.com/en/digital-to-analog-converters/da-converters/ad5542/products/product.html; ComponentLink5Description: Reference Design URL; ComponentLink5URL: http://www.analog.com/en/digital-to-analog-converters/da-converters/ad5542/products/product.html#prod_cross_sell
footprint R-14_N (SOIC, 14-Leads, Body 8.7x3.9mm, Pitch 1.27mm, IPC Medium Density)
footprint R-14_L (SOIC, 14-Leads, Body 8.7x3.9mm, Pitch 1.27mm, IPC High Density)
footprint R-14_M (SOIC, 14-Leads, Body 8.7x3.9mm, Pitch 1.27mm, IPC Low Density)
pins: 1 RFB (in) "Feedback Resistor Pin. In bipolar mode, connect this pin to the external op amp output.", 2 VOUT (out) "Analog Output Voltage from the DAC.", 3 AGNDF (power) "Ground Reference Point for Analog Circuitry (Force).", 4 AGNDS (power) "Ground Reference Point for Analog Circuitry (Sense).", 5 REFS (in) "Voltage Reference Input (Sense) for the DAC. Connect to an external 2.5 V reference. Reference can range from 2 V to VDD.", 6 REFF (in) "Voltage Reference Input (Force) for the DAC. Connect to an external 2.5 V reference. Reference can range from 2 V to VDD.", 7 ~{CS} (in) "Logic Input Signal. The chip select signal is used to frame the serial data input.", 8 SCLK (in) "Clock Input. Data is clocked into the input register on the rising edge of SCLK. Duty cycle must be between 40% and 60%.", 9 NC "No Connect.", 10 DIN (in) "Serial Data Input. This device accepts 16-bit words. Data is clocked into the input register on the rising edge of SCLK.", 11 ~{LDAC} (in) "L\D\A\C\ Input. When this input is taken low, the DAC register is simultaneously updated with the contents of the input register.", 12 DGND (power) "Digital Ground. Ground reference for digital circuitry.", 13 INV (out) "Connected to the Internal Scaling Resistors of the DAC. Connect the INV pin to external op amps inverting input in bipolar mode", 14 VDD (power) "Analog Supply Voltage, 5 V +/- 10%."

## AD5543BR
designator U?
Single 16-Bit Current Output Digital-to-Analog Converter with Serial Interface, -40 to +85 degC, R-8, Tube; Generic Part Number: AD5543; Manufacturer: Analog Devices; PartNumber: AD5543BR; # DAC Outputs: 1; Max V+: 5.5V; Op Pwr Diss: 55µW; Resolution (Bits): 16; Settling Time: 500ns; Single Supply: Yes; DatasheetVersion: Rev.F; PackageVersion: 060506-A; PackageReference: R-8; PackageDescription: 8-Lead Standard Small Outline Package [SOIC_N] Narrow Body; Supplier 1: Digi-Key; Supplier Part Number 1: AD5543BR-ND; Supplier 2: Mouser; Supplier Part Number 2: 584-AD5543BR; Packing: Tube; RoHS: N; Mounting Technology: Surface Mount; Code_JEDEC: MS-012-AA; Code_IPC: SOIC127P600-8; ComponentLink1Description: Manufacturer URL; ComponentLink1URL: http://www.analog.com/en/index.html; ComponentLink2Description: Datasheet; ComponentLink2URL: http://www.analog.com/static/imported-files/data_sheets/AD5543_5553.pdf; ComponentLink3Description: Package Specification; ComponentLink3URL: http://www.analog.com/static/imported-files/packages/PKG_PDF/SOIC_Narrow%20(R)/R_8.pdf; ComponentLink4Description: Product URL; ComponentLink4URL: http://www.analog.com/en/digital-to-analog-converters/da-converters/ad5543/products/product.html; ComponentLink5Description: Reference Design URL; ComponentLink5URL: http://www.analog.com/en/digital-to-analog-converters/da-converters/ad5543/products/product.html#prod_cross_sell
footprint R-8_N (SOIC, 8-Leads, Body 4.9x3.9mm, Pitch 1.27mm, IPC Medium Density)
footprint R-8_L (SOIC, 8-Leads, Body 4.9x3.9mm, Pitch 1.27mm, IPC High Density)
footprint R-8_M (SOIC, 8-Leads, Body 4.9x3.9mm, Pitch 1.27mm, IPC Low Density)
pins: 1 CLK (in) "Clock Input. Positive-edge triggered, clocks data into shift register.", 2 SDI (in) "Serial Register Input. Data loads directly into the shift register MSB first. Extra leading bits are ignored.", 3 RFB (in) "Internal Matching Feedback Resistor. This pin connects to an external op amp for voltage output.", 4 VREF (in) "DAC Reference Input Pin. Establishes DAC full-scale voltage. Constant input resistance vs. code.", 5 IOUT (out) "DAC Current Output. This pin connects to the inverting terminal of the external precision I-to-V op amp for voltage output.", 6 GND (power) "Analog and Digital Ground.", 7 VDD (power) "Positive Power Supply Input. Specified range of operation at 5 V +/- 10%.", 8 ~{CS} (in) "Chip Select. Active low digital input. Transfers shift-register data to DAC register on rising edge.See Table 4 for operation."